# EAGLE library part KHS82 (library FaBo-Switch)
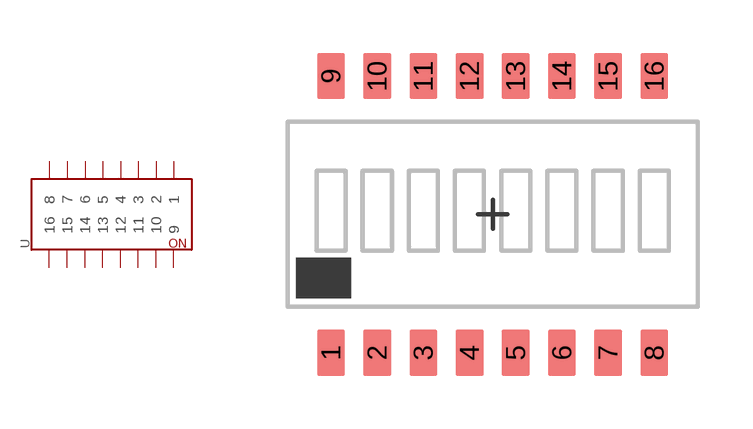
[diagram p8: symbol with the pads of KHS82; footprint KHS82]

Designator prefix -

## KHS82  [KHS82]
1  1  in
2  2  in
3  3  in
4  4  in
5  5  in
6  6  in
7  7  in
8  8  in
9  9
10  10
11  11
12  12
13  13
14  14
15  15
16  16

## Footprint KHS82 (pad centres in mm)
smd 0.76 x 1.27: 1 -4.445,-3.8; 2 -3.175,-3.8; 3 -1.905,-3.8; 4 -0.635,-3.8; 5 0.635,-3.8; 6 1.905,-3.8; 7 3.175,-3.8; 8 4.445,-3.8; 9 -4.445,3.8; 10 -3.175,3.8; 11 -1.905,3.8; 12 -0.635,3.8; 13 0.635,3.8; 14 1.905,3.8; 15 3.175,3.8; 16 4.445,3.8